# EAGLE library part SOWTER_3575 (library wheat)
XFMR, SOWTER 3575
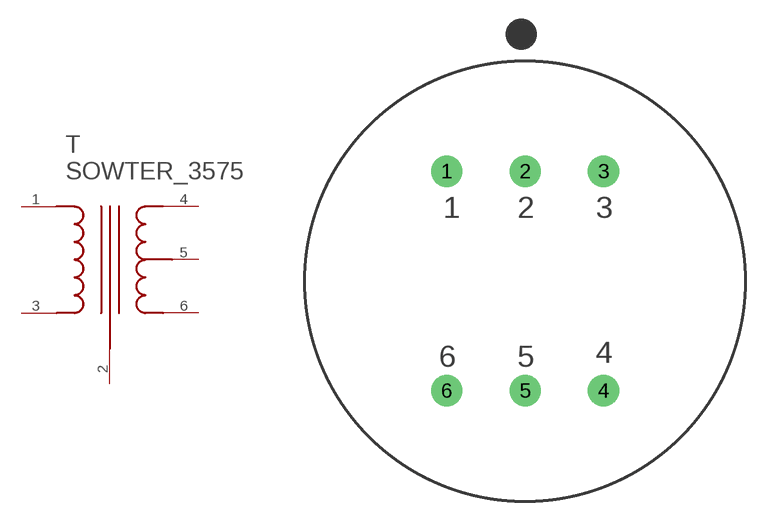
[diagram p13: symbol with the pads of SOWTER_3575; footprint SOWTER_3575]

Designator prefix T

## SOWTER_3575  [SOWTER_3575]
1  P1  pas
2  SH  pas
3  P2  pas
4  S1  pas
5  SCT  pas
6  S2  pas

## Footprint SOWTER_3575 (pad centres in mm)
XFMR, SOWTER 3575
drill 1.27 pad 2.54: 1 -6.35,8.89; 2 0,8.89; 3 6.35,8.89; 4 6.35,-8.89; 5 0,-8.89; 6 -6.35,-8.89